# EAGLE library part AKI7144 (library sh2-sh7144)
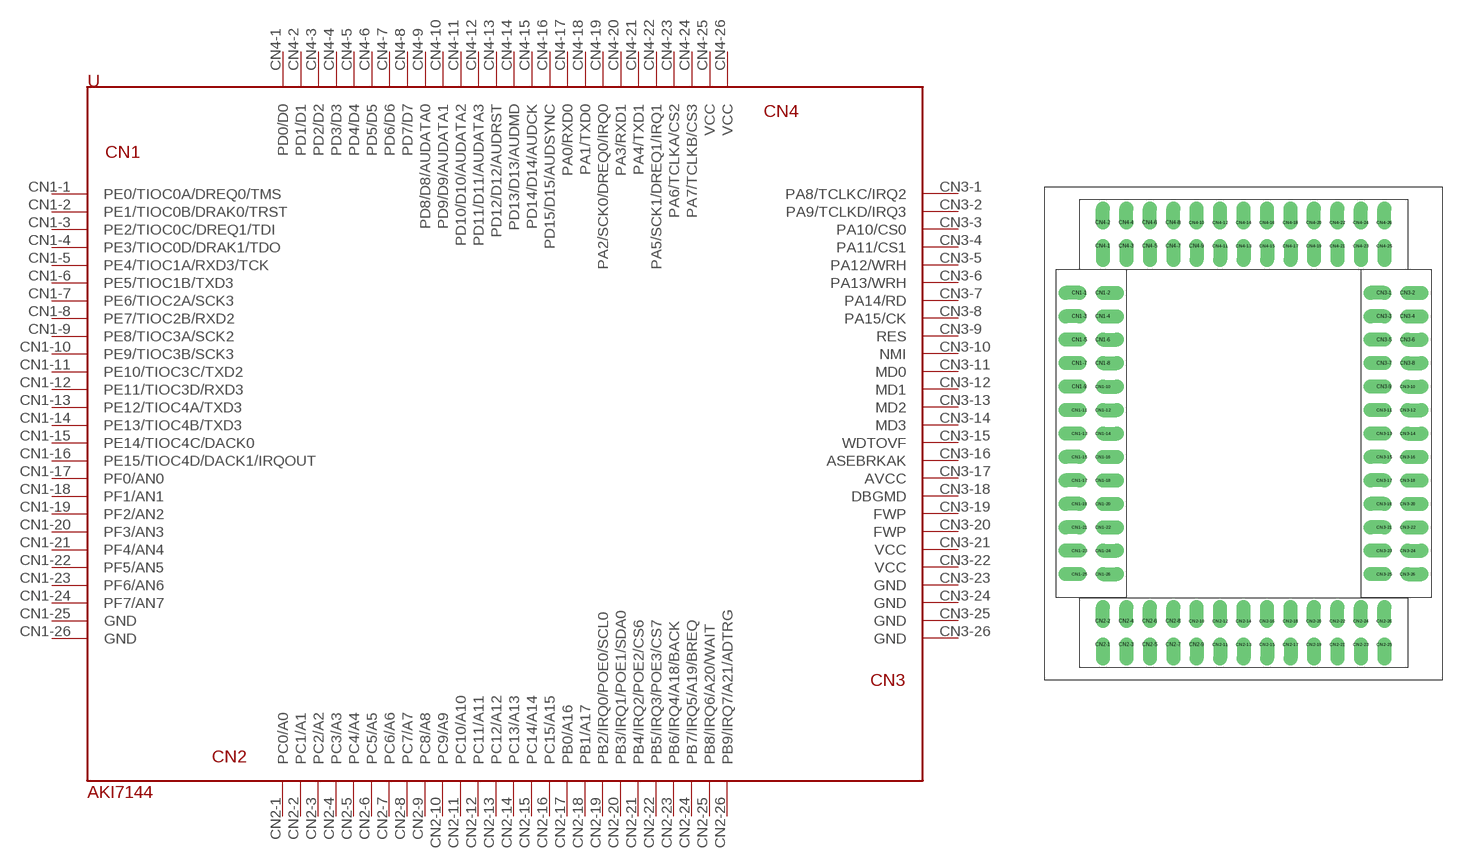
[diagram p0: symbol with the pads of AKI7144; footprint AKI7144]

Designator prefix -

## AKI7144  [AKI7144]
CN1-1  PE0/TIOC0A/DREQ0/TMS
CN1-2  PE1/TIOC0B/DRAK0/TRST
CN1-3  PE2/TIOC0C/DREQ1/TDI
CN1-4  PE3/TIOC0D/DRAK1/TDO
CN1-5  PE4/TIOC1A/RXD3/TCK
CN1-6  PE5/TIOC1B/TXD3
CN1-7  PE6/TIOC2A/SCK3
CN1-8  PE7/TIOC2B/RXD2
CN1-9  PE8/TIOC3A/SCK2
CN1-10  PE9/TIOC3B/SCK3
CN1-11  PE10/TIOC3C/TXD2
CN1-12  PE11/TIOC3D/RXD3
CN1-13  PE12/TIOC4A/TXD3
CN1-14  PE13/TIOC4B/TXD3
CN1-15  PE14/TIOC4C/DACK0
CN1-16  PE15/TIOC4D/DACK1/IRQOUT
CN1-17  PF0/AN0
CN1-18  PF1/AN1
CN1-19  PF2/AN2
CN1-20  PF3/AN3
CN1-21  PF4/AN4
CN1-22  PF5/AN5
CN1-23  PF6/AN6
CN1-24  PF7/AN7
CN1-25  GND  pwr
CN1-26  GND  pwr
CN2-1  PC0/A0
CN2-2  PC1/A1
CN2-3  PC2/A2
CN2-4  PC3/A3
CN2-5  PC4/A4
CN2-6  PC5/A5
CN2-7  PC6/A6
CN2-8  PC7/A7
CN2-9  PC8/A8
CN2-10  PC9/A9
CN2-11  PC10/A10
CN2-12  PC11/A11
CN2-13  PC12/A12
CN2-14  PC13/A13
CN2-15  PC14/A14
CN2-16  PC15/A15
CN2-17  PB0/A16
CN2-18  PB1/A17
CN2-19  PB2/IRQ0/POE0/SCL0
CN2-20  PB3/IRQ1/POE1/SDA0
CN2-21  PB4/IRQ2/POE2/CS6
CN2-22  PB5/IRQ3/POE3/CS7
CN2-23  PB6/IRQ4/A18/BACK
CN2-24  PB7/IRQ5/A19/BREQ
CN2-25  PB8/IRQ6/A20/WAIT
CN2-26  PB9/IRQ7/A21/ADTRG
CN3-1  PA8/TCLKC/IRQ2
CN3-2  PA9/TCLKD/IRQ3
CN3-3  PA10/CS0
CN3-4  PA11/CS1
CN3-5  PA12/WRH
CN3-6  PA13/WRH
CN3-7  PA14/RD
CN3-8  PA15/CK
CN3-9  RES
CN3-10  NMI
CN3-11  MD0
CN3-12  MD1
CN3-13  MD2
CN3-14  MD3
CN3-15  WDTOVF
CN3-16  ASEBRKAK
CN3-17  AVCC  pwr
CN3-18  DBGMD
CN3-19  FWP
CN3-20  FWP
CN3-21  VCC  pwr
CN3-22  VCC  pwr
CN3-23  GND  pwr
CN3-24  GND  pwr
CN3-25  GND  pwr
CN3-26  GND  pwr
CN4-1  PD0/D0
CN4-2  PD1/D1
CN4-3  PD2/D2
CN4-4  PD3/D3
CN4-5  PD4/D4
CN4-6  PD5/D5
CN4-7  PD6/D6
CN4-8  PD7/D7
CN4-9  PD8/D8/AUDATA0
CN4-10  PD9/D9/AUDATA1
CN4-11  PD10/D10/AUDATA2
CN4-12  PD11/D11/AUDATA3
CN4-13  PD12/D12/AUDRST
CN4-14  PD13/D13/AUDMD
CN4-15  PD14/D14/AUDCK
CN4-16  PD15/D15/AUDSYNC
CN4-17  PA0/RXD0
CN4-18  PA1/TXD0
CN4-19  PA2/SCK0/DREQ0/IRQ0
CN4-20  PA3/RXD1
CN4-21  PA4/TXD1
CN4-22  PA5/SCK1/DREQ1/IRQ1
CN4-23  PA6/TCLKA/CS2
CN4-24  PA7/TCLKB/CS3
CN4-25  VCC  pwr
CN4-26  VCC  pwr

## Footprint AKI7144 (pad centres in mm)
drill 1 offset: CN1-1 -17.78,15.24; CN1-2 -15.24,15.24; CN1-3 -17.78,12.7; CN1-4 -15.24,12.7; CN1-5 -17.78,10.16; CN1-6 -15.24,10.16; CN1-7 -17.78,7.62; CN1-8 -15.24,7.62; CN1-9 -17.78,5.08; CN1-10 -15.24,5.08; CN1-11 -17.78,2.54; CN1-12 -15.24,2.54; CN1-13 -17.78,0; CN1-14 -15.24,0; CN1-15 -17.78,-2.54; CN1-16 -15.24,-2.54; CN1-17 -17.78,-5.08; CN1-18 -15.24,-5.08; CN1-19 -17.78,-7.62; CN1-20 -15.24,-7.62; CN1-21 -17.78,-10.16; CN1-22 -15.24,-10.16; CN1-23 -17.78,-12.7; CN1-24 -15.24,-12.7; CN1-25 -17.78,-15.24; CN1-26 -15.24,-15.24; CN2-1 -15.24,-22.86; CN2-2 -15.24,-20.32; CN2-3 -12.7,-22.86; CN2-4 -12.7,-20.32; CN2-5 -10.16,-22.86; CN2-6 -10.16,-20.32; CN2-7 -7.62,-22.86; CN2-8 -7.62,-20.32; CN2-9 -5.08,-22.86; CN2-10 -5.08,-20.32; CN2-11 -2.54,-22.86; CN2-12 -2.54,-20.32; CN2-13 0,-22.86; CN2-14 0,-20.32; CN2-15 2.54,-22.86; CN2-16 2.54,-20.32; CN2-17 5.08,-22.86; CN2-18 5.08,-20.32; CN2-19 7.62,-22.86; CN2-20 7.62,-20.32; CN2-21 10.16,-22.86; CN2-22 10.16,-20.32; CN2-23 12.7,-22.86; CN2-24 12.7,-20.32; CN2-25 15.24,-22.86; CN2-26 15.24,-20.32; CN3-1 15.24,15.24; CN3-2 17.78,15.24; CN3-3 15.24,12.7; CN3-4 17.78,12.7; CN3-5 15.24,10.16; CN3-6 17.78,10.16; CN3-7 15.24,7.62; CN3-8 17.78,7.62; CN3-9 15.24,5.08; CN3-10 17.78,5.08; CN3-11 15.24,2.54; CN3-12 17.78,2.54; CN3-13 15.24,0; CN3-14 17.78,0; CN3-15 15.24,-2.54; CN3-16 17.78,-2.54; CN3-17 15.24,-5.08; CN3-18 17.78,-5.08; CN3-19 15.24,-7.62; CN3-20 17.78,-7.62; CN3-21 15.24,-10.16; CN3-22 17.78,-10.16; CN3-23 15.24,-12.7; CN3-24 17.78,-12.7; CN3-25 15.24,-15.24; CN3-26 17.78,-15.24; CN4-1 -15.24,20.32; CN4-2 -15.24,22.86; CN4-3 -12.7,20.32; CN4-4 -12.7,22.86; CN4-5 -10.16,20.32; CN4-6 -10.16,22.86; CN4-7 -7.62,20.32; CN4-8 -7.62,22.86; CN4-9 -5.08,20.32; CN4-10 -5.08,22.86; CN4-11 -2.54,20.32; CN4-12 -2.54,22.86; CN4-13 0,20.32; CN4-14 0,22.86; CN4-15 2.54,20.32; CN4-16 2.54,22.86; CN4-17 5.08,20.32; CN4-18 5.08,22.86; CN4-19 7.62,20.32; CN4-20 7.62,22.86; CN4-21 10.16,20.32; CN4-22 10.16,22.86; CN4-23 12.7,20.32; CN4-24 12.7,22.86; CN4-25 15.24,20.32; CN4-26 15.24,22.86